# Altium integrated library AUDIOBOARD.IntLib: 21 symbols
Pins are listed as number, name and electrical type; pins without a type are passive.

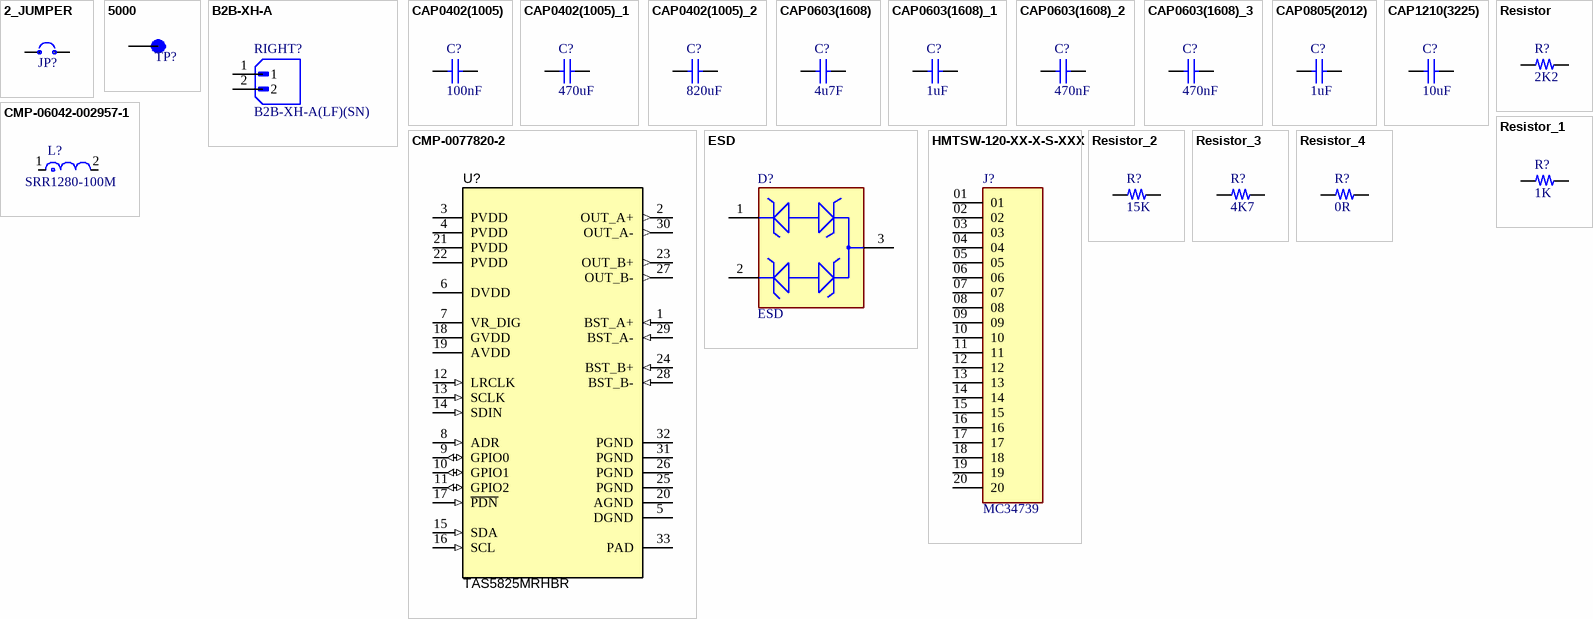
[diagram p0: symbols 2_JUMPER to Resistor_4]

## 2_JUMPER
designator JP?, comment Jumper  (value not drawn)
Pin Header, Right Angle, Board-to-Board, 2.54 mm, 1 Rows, 2 Contacts, Through Hole Right Angle; Manufacturer: Wurth; Manufacturer Part Number: 61300211021
footprint HARWIN_M20-9990246
pins: 1, 2

## 5000
designator TP?  (value not drawn)
Test Point Miniature THM H .300 Nylon 46 Insulated Red PhosBronze/Silver | Keystone Electronics 5000; SnapEDA_Link: https://www.snapeda.com/parts/5000/Keystone/view-part/?ref=snap; Package: Test Point Keystone Electronics; Value: *; MF: Keystone Electronics; MP: 5000; Check_prices: https://www.snapeda.com/parts/5000/Keystone/view-part/?ref=eda
footprint KEYSTONE_5000
pins: TP

## B2B-XH-A
designator RIGHT?, comment B2B-XH-A(LF)(SN)
B2B-XH-A(LF)(SN)-JST-1x2P 2P XH Tin 2 -25℃~+85℃ 3A 1 2.5mm Brass Direct Insert Plugin,P=2.5mm Wire To Board Connector ROHS; Manufacturer: JST; Manufacturer Part Number: B2B-XH-A(LF)(SN)
footprint JST_B2B-XH-A
pins: 1, 2

## CAP0402(1005)
designator C?, comment 100nF
CL05B104KB5NNNC-Samsung-50V 100nF X7R ±10% 0402 Multilayer Ceramic Capacitors MLCC – SMD/SMT ROHS; Manufacturer Part Number: CL05B104KB5NNNC; Manufacturer: SAMSUNG
footprint CAPC1005X55N
pins: 1, 2

## CAP0402(1005)_1
designator C?, comment 470uF
Elect CAP, 470uF, 20%, 100V, 10000Hrs; Manufacturer: CHEMI-CON; Manufacturer Part Number: EKZN101ELL471MLN3S
footprint CAPPRD750W80D1600H3150
footprint CAPPRD500W60D1000H1800
footprint CAPPRD750W80D1600H2500
pins: 1, 2

## CAP0402(1005)_2
designator C?, comment 820uF
820 µF 100 V Aluminum Electrolytic Capacitors Radial, Can 10000 Hrs @ 105°C; Manufacturer: CHEMI-CON; Manufacturer Part Number: EKZN101ELL821MMP1S
footprint CAPPRD750W80D1800H2000
footprint CAPPRD750W80D1800H3700
pins: 1, 2

## CAP0603(1608)
designator C?, comment 4u7F
CL10A475KO8NNWC-Samsung Electro-Mechanics-Cap Ceramic 4.7uF 16V X5R 10% Pad SMD 0603 85°C T/R; Manufacturer: SAMSUNG; Manufacturer Part Number: CL10A475KO8NNWC
footprint CAPC1608X90
pins: 1, 2

## CAP0603(1608)_1
designator C?, comment 1uF
SMD Multilayer Ceramic Capacitor, 1 µF, 16 V, 0603 [1608 Metric], ± 10%, X7R; Manufacturer: KEMET; Manufacturer Part Number: C0603C105K4RACTU
footprint CAPC1608X90
pins: 1, 2

## CAP0603(1608)_2
designator C?, comment 470nF
"SAMSUNG ELECTRO-MECHANICS-50V 470nF X5R ±10% 0603 Multilayer Ceramic Capacitors MLCC – SMD/SMT ROHS; Manufacturer Part Number: CL10A474KB8NNNC; Manufacturer: SAMSUNG; Package: 0603; Value: 470nF
footprint CAPC1608X90
pins: 1, 2

## CAP0603(1608)_3
designator C?, comment 470nF
SAMSUNG ELECTRO-MECHANICS-50V 470nF X5R ±10% 0603 Multilayer Ceramic Capacitors MLCC – SMD/SMT ROHS; Manufacturer Part Number: CL10A474KB8NNNC; Manufacturer: SAMSUNG
footprint CAPC1608X90
pins: 1, 2

## CAP0805(2012)
designator C?, comment 1uF
CL21B105KBFNFNE-SAMSUNG ELECTRO-MECHANICS-50V 1uF X7R ±10% 0805 Multilayer Ceramic Capacitors MLCC – SMD/SMT ROHS; Manufacturer: Samsung Electro-Mechanics; Manufacturer Part Number: CL21B105KBFNFNE
footprint CAPC2012X88N
pins: 1, 2

## CAP1210(3225)
designator C?, comment 10uF
CAP CER 10UF 50V X7R 1210; Manufacturer: Samsung Electro-Mechanics; Manufacturer Part Number: CL32B106KBJNNNE
footprint CAPC3225X270N
pins: 1, 2

## CMP-06042-002957-1
designator L?, comment SRR1280-100M
SRR1280-100M-BOURNS-SRR1280-100M-INDUCTOR, SHIELDED, 10UH, 6.3A, SMD; Manufacturer: BOURNS; Manufacturer Part Number: SRR1280-100M
footprint FP-DEM10050C-MFG
footprint INDM1250X1250X600
pins: 1, 2

## CMP-0077820-2
designator U?, comment TAS5825MRHBR
4.5 V to 26.4 V, Inductor-Less, Digital Input, Stereo, Closed-Loop Class-D Audio Amplifier with 96-kHz/192-kHz Extended Audio Processing, RHB0032N (VQFN-32); Alternate PartNumber: TAS5825MRHBT; Alternate Manufacturer: Texas Instruments; SizeAreaWB_mm2: 49.0; SizeZ_mm: 0.9; SizeX_mm: 5.0; SizeArea_mm2: 25.0; CompType: IC; AEC Qualified: N; AEC Category: Q200; ComponentLink1URL: http://www.ti.com/lit/ds/symlink/tas5825m.pdf; PackageDescription: VQFN-32; MountType: SMT; ComponentLink2URL: http://www.ti.com/product/tas5825m; ComponentLink2Description: Product Folder; Manufacturer: Texas Instruments; PackageReference: RHB0032N; SizeY_mm: 5.0; ComponentLink1Description: Datasheet Link; ComponentLink3Description: Online Datasheet; ComponentLink3URL: http://www.ti.com/product/tas5825m/datasheet; Manufacturer Part Number: TAS5825MRHBR
footprint IC_ADS125H01IRHBT
pins: 1 BST_A+ (in), 2 OUT_A+ (out), 3 PVDD (power), 4 PVDD (power), 5 DGND (power), 6 DVDD (power), 7 VR_DIG (power), 8 ADR (in), 9 GPIO0 (io), 10 GPIO1 (io), 11 GPIO2 (io), 12 LRCLK (in), 13 SCLK (in), 14 SDIN (in), 15 SDA (in), 16 SCL (in), 17 ~{PDN} (in), 18 GVDD (power), 19 AVDD (power), 20 AGND (power), 21 PVDD (power), 22 PVDD (power), 23 OUT_B+ (out), 24 BST_B+ (in), 25 PGND (power), 26 PGND (power), 27 OUT_B- (out), 28 BST_B- (in), 29 BST_A- (in), 30 OUT_A- (out), 31 PGND (power), 32 PGND (power), 33 PAD

## ESD
designator D?
CDSOT23-SM712-BOURNS-CDSOT23-SM712-TVS Diode, CDSOT23, Bidirectional, 12 V, 26 V, SOT-23, 3 Pins; Manufacturer: BOURNS; Manufacturer Part Number: cdsot23-sm712
footprint FP-SOT23-IPC_A
pins: 1, 2, 3

## HMTSW-120-XX-X-S-XXX
designator J?, comment MC34739
Pin Header, Board-to-Board, 2.54 mm, 1 Rows, 20 Contacts, Through Hole, MC34); Manufacturer: MULTICOMP PRO; SnapEDA_Link: https://www.snapeda.com/parts/HMTSW-120-08-G-S-250/Samtec/view-part/?ref=snap; Package: None; Value: *; Manufacturer Part Number: MC34739; Check_prices: https://www.snapeda.com/parts/HMTSW-120-08-G-S-250/Samtec/view-part/?ref=eda
footprint SAMTEC_HMTSW-120-XX-X-S-XXX
pins: 01, 02, 03, 04, 05, 06, 07, 08, 09, 10, 11, 12, 13, 14, 15, 16, 17, 18, 19, 20

## Resistor
designator R?, comment 2K2
RC0402FR-132K2L-Yageo-SMD Chip Resistor, 2.2 kohm, ± 1%, 63 mW, 0402 [1005 Metric] Thick Film, General Purpose; Manufacturer: yageo; Value: 2K2; Manufacturer Part Number: RC0402FR-132K2L; Tolerance: ±1 %; Operating Temperature: -55°C ~ 155°C; Type: SMD; Package: 0402
footprint RES_0402
footprint RES_ERJU02F5102X
pins: 1, 2

## Resistor_1
designator R?, comment 1K
RC0402FR-071KL-YAGEO-Res Thick Film 0402 1K Ohm 1% 0.063W(1/16W) ±100ppm/°C Pad SMD T/R'; Manufacturer: yageo; Value: 1K; Manufacturer Part Number: RC0402FR-071KL; Tolerance: ±1 %; Temperature Coefficient: *; Operating Temperature: -55°C ~ 155°C; Type: SMD; Package: 0402; Power Rating: *
footprint RES_0402
footprint RES_ERJU02F5102X
pins: 1, 2

## Resistor_2
designator R?, comment 15K
RC0402FR-0715KL-YAGEO-Res Thick Film 0402 15K Ohm 1% 0.063W(1/16W) ±100ppm/°C Pad SMD T/R; Manufacturer: yageo; Value: 15K; Manufacturer Part Number: RC0402FR-0715KL; Tolerance: ±1 %; Temperature Coefficient: *; Operating Temperature: -55°C ~ 155°C; Type: SMD; Package: 0402; Power Rating: *
footprint RES_0402
footprint RES_ERJU02F5102X
pins: 1, 2

## Resistor_3
designator R?, comment 4K7
RC0402FR-074K7L-YAGEO-Res Thick Film 0402 4.7K Ohm 1% 0.063W(1/16W) ±100ppm/°C Pad SMD T/R; Manufacturer: yageo; Value: 4k7; Manufacturer Part Number: RC0402FR-074K7L; Tolerance: ±1 %; Temperature Coefficient: *; Operating Temperature: -55°C ~ 155°C; Type: SMD; Package: 0402; Power Rating: *
footprint RES_0402
footprint RES_ERJU02F5102X
pins: 1, 2

## Resistor_4
designator R?, comment 0R
RC0402FR-070RL,YAGEO,0 Ohms Jumper 0.063W, 1/16W Chip Resistor 0402; Tolerance: ±1 %; Value: 0R; Manufacturer: yageo; Manufacturer Part Number: RC0402FR-070RL; Temperature Coefficient: *; Operating Temperature: -55°C ~ 155°C; Type: SMD; Package: 0402; Power Rating: *
footprint RES_0402
footprint RES_ERJU02F5102X
pins: 1, 2